# EAGLE library part MCP2515-*/? (library Volks73-MicrochipTechnology)
Stand-Alone CAN Controller with SPI Interface Documentation Datasheet <http://ww1.microchip.com/downloads/en/DeviceDoc/21801G.pdf> Development Tools Catalog <http://ww1.microchip.com/downloads/en/DeviceDoc/50001894D.pdf> MCP2515 REv. B Silicon Errata <http://ww1.microchip.com/downloads/en/DeviceDoc/80179g.pdf> General Description Microchip Technology’s MCP2515 is a stand-alone Controller Area Network (CAN) controller that implements the CAN specification, version 2.0B. It is capable of transmitting and receiving both standard and extended data and remote frames. The MCP2515 has two acceptance masks and six acceptance filters that are used to filter out unwanted messages, thereby reducing the host MCU’s overhead. The MCP2515 interfaces with microcontrollers (MCUs) via an industry standard Serial Peripheral Interface (SPI). Features Implements CAN V2.0B at 1 Mb/s: 0-8 byte length in the data field Standard and extended data and remote frames Receive Buffers, Masks and Filters: Two receive buffers with prioritized message storage Six 29-bit filters Two 29-bit masks Data Byte Filtering on the First Two Data Bytes (applies to standard data frames) Three Transmit Buffers with Prioritization and Abort Features High-Speed SPI Interface (10 MHz): SPI modes 0,0 and 1,1 One-Shot mode Ensures Message Transmission is Attempted Only One Time Clock Out Pin with Programmable Prescaler: Can be used as a clock source for other device(s) Start-of-Frame (SOF) Signal is Available for Monitoring the SOF Signal: Can be used for time-slot-based protocols and/or bus diagnostics to detect early bus degradation Interrupt Output Pin with Selectable Enables Buffer Full Output Pins Configurable as: Interrupt output for each receive buffer General purpose output Request-to-Send (RTS) Input Pins Individually Configurable as: Control pins to request transmission for each transmit buffer General purpose inputs Low-Power CMOS Technology: Operates from 2.7V - 5.5V 5 mA active current (typical) 1 µA standby current (typical) (Sleep mode) Temperature Ranges Supported: Industrial (I): -40°C to +85°C Extended (E): -40°C to +125°C
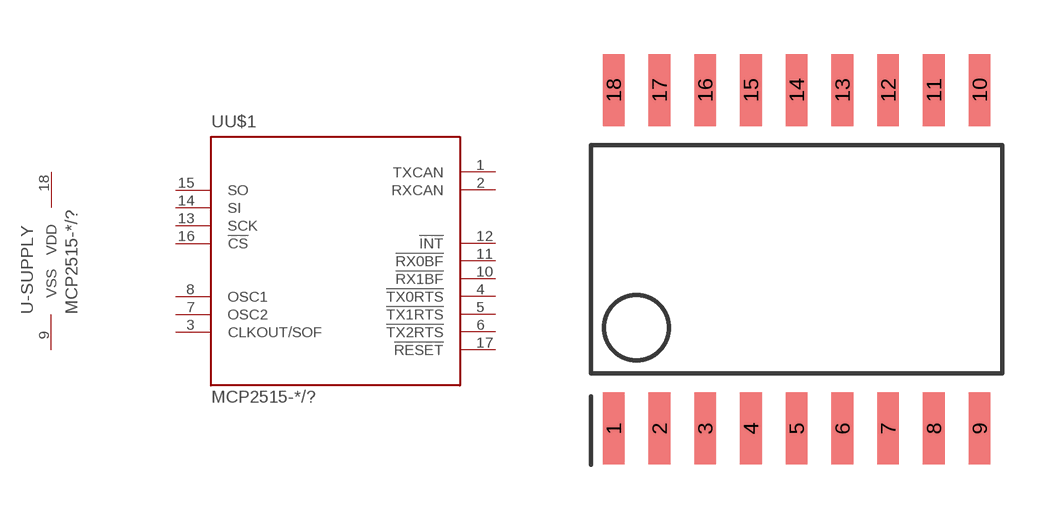
[diagram p2: symbol with the pads of SOIC-18; footprint SOIC-18]

Designator prefix U; gates U$1=2515 -SUPPLY=SUPPLY

## MCP2515-I/SO (CATEGORY: Integrated Circuits (ICs); CURRENT-SUPPLY: 10mA; DATASHEET: http://ww1.microchip.com/downloads/en/DeviceDoc/21801G.pdf; DESCRIPTION: IC CAN CONTROLLER W/SPI 18SOIC; DOCUMENTATION_LINK: <a href="http://www.microchip.com/mymicrochip/filehandler.aspx?ddocname=en552842">Datasheet</a>; DOCUMENTATION_URL: http://www.microchip.com/mymicrochip/filehandler.aspx?ddocname=en552842; FAMILY: Interface - Controllers; FUNCTION: Controller; INTERFACE: SPI; MANUFACTURER: Microchip Technology; OPERATING_TEMPERATURE: -40°C ~ 85°C; PACKAGE-CASE: 18-SOIC (0.295", 7.50mm Width); PART_NUMBER: MCP2515-I/SO; PROTOCOL: CAN; SERIES: -; STANDARDS: CAN 2.0; SUPPLIER_DEVICE_PACKAGE: 18-SOIC; SUPPLIER_ITEM_LINK: <a href="http://www.digikey.com/product-detail/en/MCP2515T-I%2FSO/MCP2515T-I%2FSOCT-ND/4307902">Details</a>; SUPPLIER_ITEM_NUMBER: MCP2515T-I/SOCT-ND; SUPPLIER_ITEM_URL: http://www.digikey.com/product-detail/en/MCP2515T-I%2FSO/MCP2515T-I%2FSOCT-ND/4307902; SUPPLIER_LINK: <a href="http://www.digikey.com">Home Page</a>; SUPPLIER_NAME: Digi-Key; SUPPLIER_URL: http://www.digikey.com; VOLTAGE-SUPPLY: 2.7 V ~ 5.5 V)  [SOIC-18]
1  U$1:TXCAN
2  U$1:RXCAN
3  U$1:CLKOUT/SOF
4  U$1:!TX0RTS!
5  U$1:!TX1RTS!
6  U$1:!TX2RTS!
7  U$1:OSC2
8  U$1:OSC1
9  -SUPPLY:VSS  pwr
10  U$1:!RX1BF!
11  U$1:!RX0BF!
12  U$1:!INT!
13  U$1:SCK
14  U$1:SI
15  U$1:SO
16  U$1:!CS!
17  U$1:!RESET!
18  -SUPPLY:VDD  pwr

## Footprint SOIC-18 (pad centres in mm)
18-Lead Plastic Small Outline (SO) - Wide, 7.50 mm Body [SOIC]
smd 0.6 x 2: 1 -5.08,-4.7; 2 -3.81,-4.7; 3 -2.54,-4.7; 4 -1.27,-4.7; 5 0,-4.7; 6 1.27,-4.7; 7 2.54,-4.7; 8 3.81,-4.7; 9 5.08,-4.7; 10 5.08,4.7; 11 3.81,4.7; 12 2.54,4.7; 13 1.27,4.7; 14 0,4.7; 15 -1.27,4.7; 16 -2.54,4.7; 17 -3.81,4.7; 18 -5.08,4.7